# EAGLE library part LT3504 (library linear-technology)
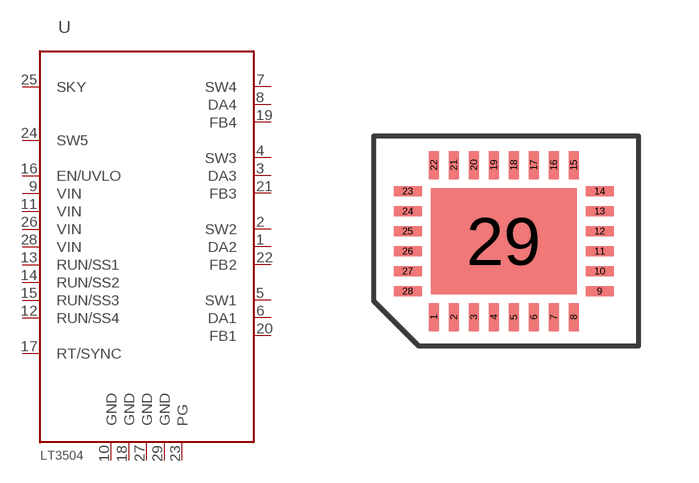
[diagram p24: symbol with the pads of QFN284X5; footprint QFN284X5]

Designator prefix -

## LT3504  [QFN284X5]
1  DA2
2  SW2
3  DA3
4  SW3
5  SW1
6  DA1
7  SW4
8  DA4
9  VIN
10  GND
11  VIN
12  RUN/SS4
13  RUN/SS1
14  RUN/SS2
15  RUN/SS3
16  EN/UVLO
17  RT/SYNC
18  GND
19  FB4
20  FB1
21  FB3
22  FB2
23  PG
24  SW5
25  SKY
26  VIN
27  GND
28  VIN
29  GND

## Footprint QFN284X5 (pad centres in mm)
smd 0.25 x 0.7: 1 -1.75,-1.9; 2 -1.25,-1.9; 3 -0.75,-1.9; 4 -0.25,-1.9; 5 0.25,-1.9; 6 0.75,-1.9; 7 1.25,-1.9; 8 1.75,-1.9; 15 1.75,1.9; 16 1.25,1.9; 17 0.75,1.9; 18 0.25,1.9; 19 -0.25,1.9; 20 -0.75,1.9; 21 -1.25,1.9; 22 -1.75,1.9
smd 0.7 x 0.25: 9 2.4,-1.25; 10 2.4,-0.75; 11 2.4,-0.25; 12 2.4,0.25; 13 2.4,0.75; 14 2.4,1.25; 23 -2.4,1.25; 24 -2.4,0.75; 25 -2.4,0.25; 26 -2.4,-0.25; 27 -2.4,-0.75; 28 -2.4,-1.25
smd 3.65 x 2.65: 29 0,0